# EAGLE library part 74AC11244DW (library xess)
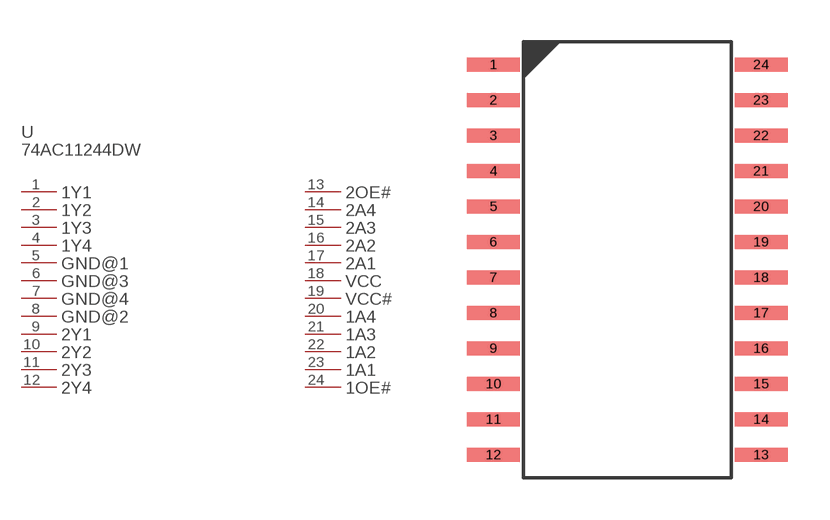
[diagram p115: symbol with the pads of 74AC11244DW; footprint 74AC11244DW]

Designator prefix U; gates PART_VALUE=PART_VALUE-74AC11244DW 1Y1=PL-74AC11244DW 1Y2=PL-74AC11244DW 1Y3=PL-74AC11244DW 1Y4=PL-74AC11244DW GND@1=PL-74AC11244DW GND@3=PL-74AC11244DW GND@4=PL-74AC11244DW GND@2=PL-74AC11244DW 2Y1=PL-74AC11244DW 2Y2=PL-74AC11244DW 2Y3=PL-74AC11244DW 2Y4=PL-74AC11244DW 2OE#=PL-74AC11244DW 2A4=PL-74AC11244DW 2A3=PL-74AC11244DW 2A2=PL-74AC11244DW 2A1=PL-74AC11244DW VCC=PL-74AC11244DW VCC#=PL-74AC11244DW 1A4=PL-74AC11244DW 1A3=PL-74AC11244DW 1A2=PL-74AC11244DW 1A1=PL-74AC11244DW 1OE#=PL-74AC11244DW

## 74AC11244DW  [74AC11244DW]
1  1Y1:P$1
2  1Y2:P$1
3  1Y3:P$1
4  1Y4:P$1
5  GND@1:P$1
6  GND@3:P$1
7  GND@4:P$1
8  GND@2:P$1
9  2Y1:P$1
10  2Y2:P$1
11  2Y3:P$1
12  2Y4:P$1
13  2OE#:P$1
14  2A4:P$1
15  2A3:P$1
16  2A2:P$1
17  2A1:P$1
18  VCC:P$1
19  VCC#:P$1
20  1A4:P$1
21  1A3:P$1
22  1A2:P$1
23  1A1:P$1
24  1OE#:P$1

## Footprint 74AC11244DW (pad centres in mm)
smd 1.89 x 0.51: 1 -0.11,0; 2 -0.11,-1.27; 3 -0.11,-2.54; 4 -0.11,-3.81; 5 -0.11,-5.08; 6 -0.11,-6.35; 7 -0.11,-7.62; 8 -0.11,-8.89; 9 -0.11,-10.16; 10 -0.11,-11.43; 11 -0.11,-12.7; 12 -0.11,-13.97; 13 9.47,-13.97; 14 9.47,-12.7; 15 9.47,-11.43; 16 9.47,-10.16; 17 9.47,-8.89; 18 9.47,-7.62; 19 9.47,-6.35; 20 9.47,-5.08; 21 9.47,-3.81; 22 9.47,-2.54; 23 9.47,-1.27; 24 9.47,0